# Altium footprint library DWM1000.PcbLib: 1 footprints
Each footprint in its own frame and in the unit in brackets; x right, y up, seen from the top. Pads: shape width x height; smd on the part's side, far side on the other; paste and mask are expansions set on the pad; w line width, h text height; cw(c..) or ccw(c..) is an arc to the next point about the centre after c.
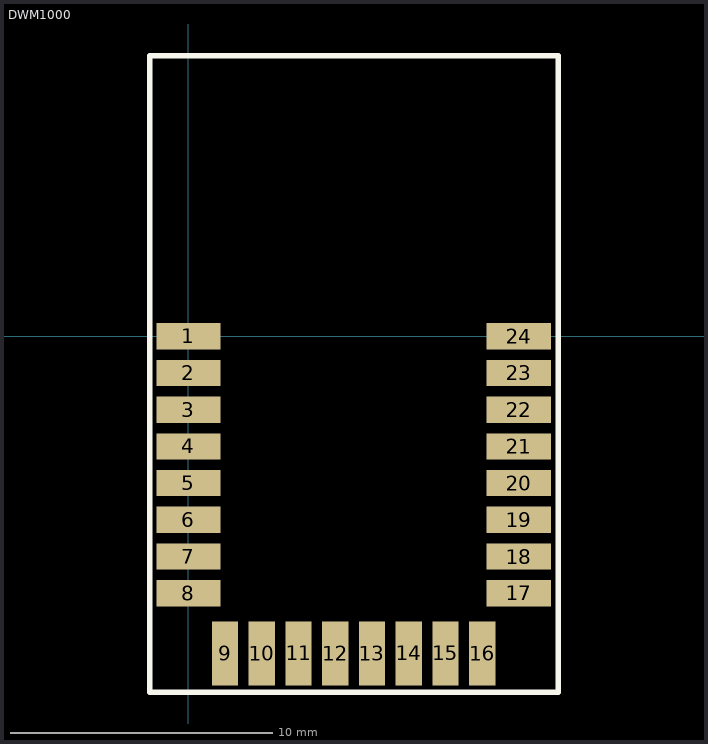
[diagram p0: the footprint, top view; thin cyan lines are the x and y axes]

## DWM1000 [mm]
pads (24):
  rect 2.45x1 smd: 1(0,0) 2(0,-1.4) 3(0,-2.8) 4(0,-4.2) 5(0,-5.6) 6(0,-7) 7(0,-8.4) 8(0,-9.8) 17(12.59,-9.8) 18(12.59,-8.4) 19(12.59,-7) 20(12.59,-5.6) 21(12.59,-4.2) 22(12.59,-2.8) 23(12.59,-1.4) 24(12.59,0)
  rect 1x2.45 smd: 9(1.395,-12.095) 10(2.795,-12.095) 11(4.195,-12.095) 12(5.595,-12.095) 13(6.995,-12.095) 14(8.395,-12.095) 15(9.795,-12.095) 16(11.195,-12.095)
Top Overlay:
  lines w0.2: -1.475,-13.57 -1.475,10.687 13.13,10.687 14.095,10.687 14.095,-13.57 -1.475,-13.57
3D body: height 2.9, standoff -0.01, extent -0.101,-12.3 12.899,10.7